# EAGLE library part EP3C25-Q240-IO131 (library Altera-EP3C25-Q240-IO131-CTRL_S)
EPF10K30 FLEX 10K family
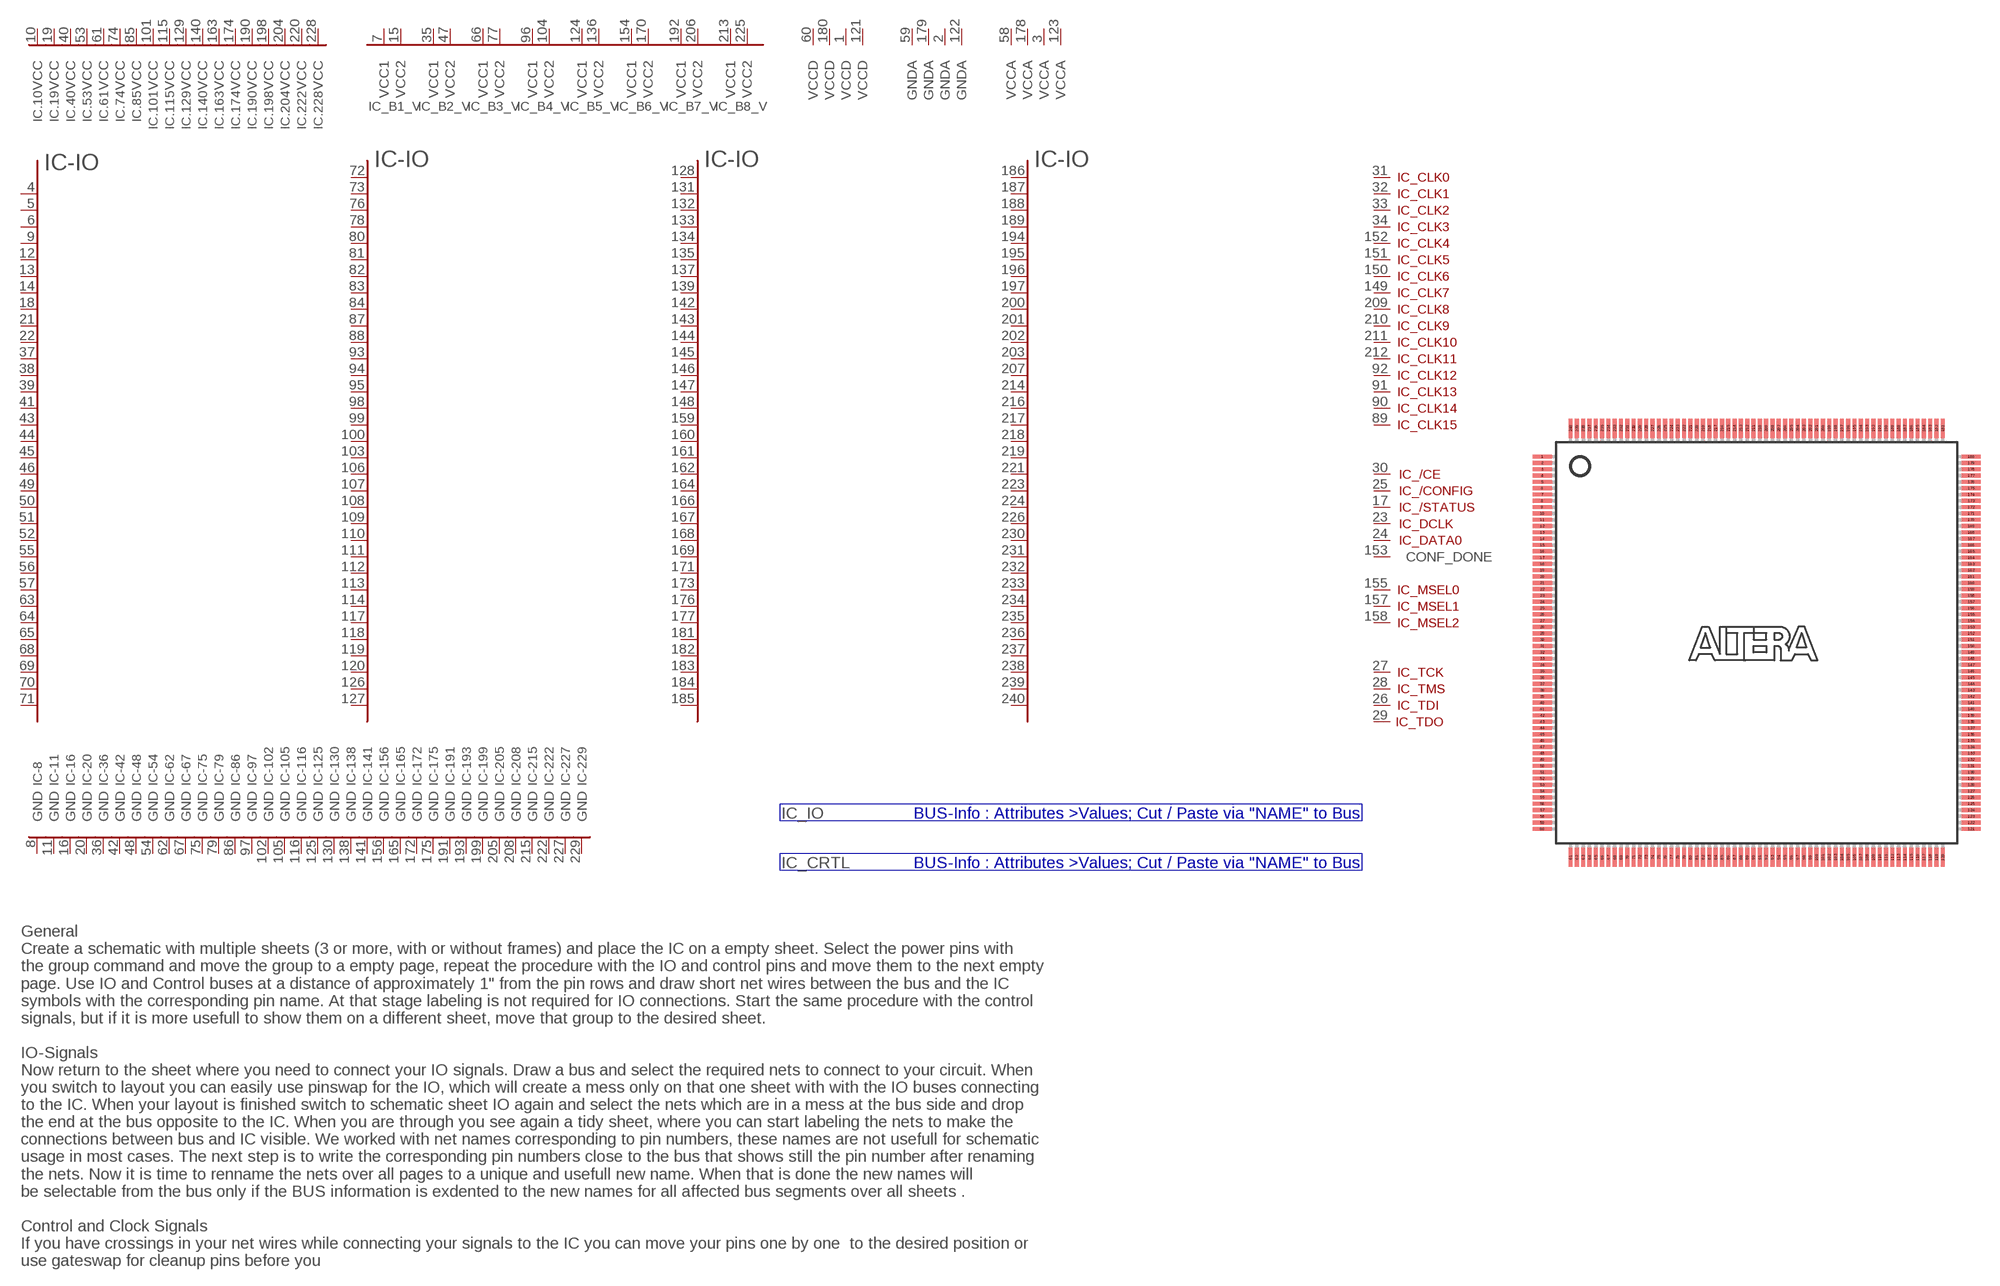
[diagram p0: symbol with the pads of PQFP240; footprint PQFP240]

Designator prefix IC; gates .10=VCCINT .19=VCCINT .40=VCCINT .53=VCCINT .61=VCCINT .74=VCCINT .85=VCCINT .101=VCCINT .115=VCCINT .129=VCCINT .140=VCCINT .163=VCCINT .174=VCCINT .190=VCCINT .198=VCCINT .204=VCCINT .222=VCCINT .228=VCCINT -8=GNDINT -11=GNDINT -16=GNDINT -20=GNDINT -36=GNDINT -42=GNDINT -48=GNDINT -54=GNDINT -62=GNDINT -67=GNDINT -75=GNDINT -79=GNDINT -86=GNDINT -97=GNDINT -102=GNDINT -105=GNDINT -116=GNDINT -125=GNDINT -130=GNDINT -138=GNDINT -141=GNDINT -156=GNDINT -165=GNDINT -175=GNDINT -191=GNDINT -193=GNDINT -199=GNDINT -205=GNDINT -208=GNDINT -215=GNDINT -222=GNDINT -227=GNDINT -229=GNDINT -172=GNDINT _B1_V=VCC_IO _B2_V=VCC_IO _B3_V=VCC_IO _B4_V=VCC_IO _B5_V=VCC_IO _B6_V=VCC_IO _B7_V=VCC_IO _B8_V=VCC_IO -IO=IO_1-131 _IO=INFO-BUS _CRTL=INFO-BUS G$2=USAGE G$31=CONF_DONE PLL1=VCCD PLL2=VCCD PLL3=VCCD PLL4=VCCD GNDA1=GNDA GNDA2=GNDA GNDA3=GNDA GNDA4=GNDA VCCA1=VCCA VCCA2=VCCA VCCA3=VCCA VCCA4=VCCA _CLK0=CLK _CLK1=CLK _CLK2=CLK _CLK3=CLK _CLK4=CLK _CLK5=CLK _CLK6=CLK _CLK7=CLK _CLK8=CLK _CLK9=CLK _CLK10=CLK _CLK11=CLK _CLK12=CLK _CLK13=CLK _CLK14=CLK _CLK15=CLK _MSEL0=MSEL _MSEL1=MSEL _MSEL2=MSEL _/CE=CTRL _/CONFIG=CTRL _/STATUS=CTRL _TCK=JTAG-IN _TMS=JTAG-IN _TDI=JTAG-IN _TDO=JTAG-OUT _DCLK=CTRL _DATA0=CTRL

## EP3C25-Q240-IO131 (BUS-CTRL: -CTRL:CLK[0..15],CONF_DONE,/STATUS,/CONFIG,MSEL[0..2],/CE,DCLK,DATA0,TCK,TDO,TMS,TDI; BUS-IO: -IO:PIN#,4,5,6,9,12,13,14,18,21,22,37,38,39,41,42,43,44,45,46,49,50,51,52,55,56,57,63,64,65,68,69,70,71,72,73,76,78,80,81,82,83,84,87,88,93,94,95,98,99,100,103,106,107,108,109,110,111,112,113,114,117,118,119,120,126,127,128,131,132,133,134,135,137,139,142,148,159,160,161,162,164,166,167,168,169,171,173,176,177,181,182,183,184,185,186,187,188,189,194,195,196,197,200,201,202,203,207,214,216,217,218,219,221,223,224,226,230,231,232,233,234,235,236,237,238,239,240)  [PQFP240]
1  PLL3:VCCD  pwr
2  GNDA3:GNDA  pwr
3  VCCA3:VCCA  pwr
4  -IO:IO_1
5  -IO:IO_2
6  -IO:IO_3
7  _B1_V:VCC1  pwr
8  -8:GND  pwr
9  -IO:IO_4
10  .10:VCC  pwr
11  -11:GND  pwr
12  -IO:IO_5
13  -IO:IO_6
14  -IO:IO_7
15  _B1_V:VCC2  pwr
16  -16:GND  pwr
17  _/STATUS:P$1  in
18  -IO:IO_8
19  .19:VCC  pwr
20  -20:GND  pwr
21  -IO:IO_9
22  -IO:IO_10
23  _DCLK:P$1  in
24  _DATA0:P$1  in
25  _/CONFIG:P$1  in
26  _TDI:P$1  in
27  _TCK:P$1  in
28  _TMS:P$1  in
29  _TDO:P$1  out
30  _/CE:P$1  in
31  _CLK0:CLK  out
32  _CLK1:CLK  out
33  _CLK2:CLK  out
34  _CLK3:CLK  out
35  _B2_V:VCC1  pwr
36  -36:GND  pwr
37  -IO:IO_11
38  -IO:IO_12
39  -IO:IO_13
40  .40:VCC  pwr
41  -IO:IO_14
42  -42:GND  pwr
43  -IO:IO_15
44  -IO:IO_16
45  -IO:IO_17
46  -IO:IO_18
47  _B2_V:VCC2  pwr
48  -48:GND  pwr
49  -IO:IO_19
50  -IO:IO_20
51  -IO:IO_21
52  -IO:IO_22
53  .53:VCC  pwr
54  -54:GND  pwr
55  -IO:IO_23
56  -IO:IO_24
57  -IO:IO_25
58  VCCA1:VCCA  pwr
59  GNDA1:GNDA  pwr
60  PLL1:VCCD  pwr
61  .61:VCC  pwr
62  -62:GND  pwr
63  -IO:IO_26
64  -IO:IO_27
65  -IO:IO_28
66  _B3_V:VCC1  pwr
67  -67:GND  pwr
68  -IO:IO_29
69  -IO:IO_30
70  -IO:IO_31
71  -IO:IO_32
72  -IO:IO_33
73  -IO:IO_34
74  .74:VCC  pwr
75  -75:GND  pwr
76  -IO:IO_35
77  _B3_V:VCC2  pwr
78  -IO:IO_36
79  -79:GND  pwr
80  -IO:IO_37
81  -IO:IO_38
82  -IO:IO_39
83  -IO:IO_40
84  -IO:IO_41
85  .85:VCC  pwr
86  -86:GND  pwr
87  -IO:IO_42
88  -IO:IO_43
89  _CLK15:CLK  out
90  _CLK14:CLK  out
91  _CLK13:CLK  out
92  _CLK12:CLK  out
93  -IO:IO_44
94  -IO:IO_45
95  -IO:IO_46
96  _B4_V:VCC1  pwr
97  -97:GND  pwr
98  -IO:IO_47
99  -IO:IO_48
100  -IO:IO_49
101  .101:VCC  pwr
102  -102:GND  pwr
103  -IO:IO_50
104  _B4_V:VCC2  pwr
105  -105:GND  pwr
106  -IO:IO_51
107  -IO:IO_52
108  -IO:IO_53
109  -IO:IO_54
110  -IO:IO_55
111  -IO:IO_56
112  -IO:IO_57
113  -IO:IO_58
114  -IO:IO_59
115  .115:VCC  pwr
116  -116:GND  pwr
117  -IO:IO_60
118  -IO:IO_61
119  -IO:IO_62
120  -IO:IO_63
121  PLL4:VCCD  pwr
122  GNDA4:GNDA  pwr
123  VCCA4:VCCA  pwr
124  _B5_V:VCC1  pwr
125  -125:GND  pwr
126  -IO:IO_64
127  -IO:IO_65
128  -IO:IO_66
129  .129:VCC  pwr
130  -130:GND  pwr
131  -IO:IO_67
132  -IO:IO_68
133  -IO:IO_69
134  -IO:IO_70
135  -IO:IO_71
136  _B5_V:VCC2  pwr
137  -IO:IO_72
138  -138:GND  pwr
139  -IO:IO_73
140  .140:VCC  pwr
141  -141:GND  pwr
142  -IO:IO_74
143  -IO:IO_75
144  -IO:IO_76
145  -IO:IO_77
146  -IO:IO_78
147  -IO:IO_79
148  -IO:IO_80
149  _CLK7:CLK  out
150  _CLK6:CLK  out
151  _CLK5:CLK  out
152  _CLK4:CLK  out
153  G$31:CONF_DONE  out
154  _B6_V:VCC1  pwr
155  _MSEL0:MSEL  in
156  -156:GND  pwr
157  _MSEL1:MSEL  in
158  _MSEL2:MSEL  in
159  -IO:IO_81
160  -IO:IO_82
161  -IO:IO_83
162  -IO:IO_84
163  .163:VCC  pwr
164  -IO:IO_85
165  -165:GND  pwr
166  -IO:IO_86
167  -IO:IO_87
168  -IO:IO_88
169  -IO:IO_89
170  _B6_V:VCC2  pwr
171  -IO:IO_90
172  -172:GND  pwr
173  -IO:IO_91
174  .174:VCC  pwr
175  -175:GND  pwr
176  -IO:IO_92
177  -IO:IO_93
178  VCCA2:VCCA  pwr
179  GNDA2:GNDA  pwr
180  PLL2:VCCD  pwr
181  -IO:IO_94
182  -IO:IO_95
183  -IO:IO_96
184  -IO:IO_97
185  -IO:IO_98
186  -IO:IO_99
187  -IO:IO_100
188  -IO:IO_101
189  -IO:IO_102
190  .190:VCC  pwr
191  -191:GND  pwr
192  _B7_V:VCC1  pwr
193  -193:GND  pwr
194  -IO:IO_103
195  -IO:IO_104
196  -IO:IO_105
197  -IO:IO_106
198  .198:VCC  pwr
199  -199:GND  pwr
200  -IO:IO_107
201  -IO:IO_108
202  -IO:IO_109
203  -IO:IO_110
204  .204:VCC  pwr
205  -205:GND  pwr
206  _B7_V:VCC2  pwr
207  -IO:IO_111
208  -208:GND  pwr
209  _CLK8:CLK  out
210  _CLK9:CLK  out
211  _CLK10:CLK  out
212  _CLK11:CLK  out
213  _B8_V:VCC1  pwr
214  -IO:IO_112
215  -215:GND  pwr
216  -IO:IO_113
217  -IO:IO_114
218  -IO:IO_115
219  -IO:IO_116
220  .222:VCC  pwr
221  -IO:IO_117
222  -222:GND  pwr
223  -IO:IO_118
224  -IO:IO_119
225  _B8_V:VCC2  pwr
226  -IO:IO_120
227  -227:GND  pwr
228  .228:VCC  pwr
229  -229:GND  pwr
230  -IO:IO_121
231  -IO:IO_122
232  -IO:IO_123
233  -IO:IO_124
234  -IO:IO_125
235  -IO:IO_126
236  -IO:IO_127
237  -IO:IO_128
238  -IO:IO_129
239  -IO:IO_130
240  -IO:IO_131

## Footprint PQFP240 (pad centres in mm)
Plastic Quad Flat Pack
smd 1.5 x 0.32: 1 -17,14.75; 2 -17,14.25; 3 -17,13.75; 4 -17,13.25; 5 -17,12.75; 6 -17,12.25; 7 -17,11.75; 8 -17,11.25; 9 -17,10.75; 10 -17,10.25; 11 -17,9.75; 12 -17,9.25; 13 -17,8.75; 14 -17,8.25; 15 -17,7.75; 16 -17,7.25; 17 -17,6.75; 18 -17,6.25; 19 -17,5.75; 20 -17,5.25; 21 -17,4.75; 22 -17,4.25; 23 -17,3.75; 24 -17,3.25; 25 -17,2.75; 26 -17,2.25; 27 -17,1.75; 28 -17,1.25; 29 -17,0.75; 30 -17,0.25; 31 -17,-0.25; 32 -17,-0.75; 33 -17,-1.25; 34 -17,-1.75; 35 -17,-2.25; 36 -17,-2.75; 37 -17,-3.25; 38 -17,-3.75; 39 -17,-4.25; 40 -17,-4.75; 41 -17,-5.25; 42 -17,-5.75; 43 -17,-6.25; 44 -17,-6.75; 45 -17,-7.25; 46 -17,-7.75; 47 -17,-8.25; 48 -17,-8.75; 49 -17,-9.25; 50 -17,-9.75; 51 -17,-10.25; 52 -17,-10.75; 53 -17,-11.25; 54 -17,-11.75; 55 -17,-12.25; 56 -17,-12.75; 57 -17,-13.25; 58 -17,-13.75; 59 -17,-14.25; 60 -17,-14.75; 121 17,-14.75; 122 17,-14.25; 123 17,-13.75; 124 17,-13.25; 125 17,-12.75; 126 17,-12.25; 127 17,-11.75; 128 17,-11.25; 129 17,-10.75; 130 17,-10.25; 131 17,-9.75; 132 17,-9.25; 133 17,-8.75; 134 17,-8.25; 135 17,-7.75; 136 17,-7.25; 137 17,-6.75; 138 17,-6.25; 139 17,-5.75; 140 17,-5.25; 141 17,-4.75; 142 17,-4.25; 143 17,-3.75; 144 17,-3.25; 145 17,-2.75; 146 17,-2.25; 147 17,-1.75; 148 17,-1.25; 149 17,-0.75; 150 17,-0.25; 151 17,0.25; 152 17,0.75; 153 17,1.25; 154 17,1.75; 155 17,2.25; 156 17,2.75; 157 17,3.25; 158 17,3.75; 159 17,4.25; 160 17,4.75; 161 17,5.25; 162 17,5.75; 163 17,6.25; 164 17,6.75; 165 17,7.25; 166 17,7.75; 167 17,8.25; 168 17,8.75; 169 17,9.25; 170 17,9.75; 171 17,10.25; 172 17,10.75; 173 17,11.25; 174 17,11.75; 175 17,12.25; 176 17,12.75; 177 17,13.25; 178 17,13.75; 179 17,14.25; 180 17,14.75
smd 0.32 x 1.5: 61 -14.75,-17; 62 -14.25,-17; 63 -13.75,-17; 64 -13.25,-17; 65 -12.75,-17; 66 -12.25,-17; 67 -11.75,-17; 68 -11.25,-17; 69 -10.75,-17; 70 -10.25,-17; 71 -9.75,-17; 72 -9.25,-17; 73 -8.75,-17; 74 -8.25,-17; 75 -7.75,-17; 76 -7.25,-17; 77 -6.75,-17; 78 -6.25,-17; 79 -5.75,-17; 80 -5.25,-17; 81 -4.75,-17; 82 -4.25,-17; 83 -3.75,-17; 84 -3.25,-17; 85 -2.75,-17; 86 -2.25,-17; 87 -1.75,-17; 88 -1.25,-17; 89 -0.75,-17; 90 -0.25,-17; 91 0.25,-17; 92 0.75,-17; 93 1.25,-17; 94 1.75,-17; 95 2.25,-17; 96 2.75,-17; 97 3.25,-17; 98 3.75,-17; 99 4.25,-17; 100 4.75,-17; 101 5.25,-17; 102 5.75,-17; 103 6.25,-17; 104 6.75,-17; 105 7.25,-17; 106 7.75,-17; 107 8.25,-17; 108 8.75,-17; 109 9.25,-17; 110 9.75,-17; 111 10.25,-17; 112 10.75,-17; 113 11.25,-17; 114 11.75,-17; 115 12.25,-17; 116 12.75,-17; 117 13.25,-17; 118 13.75,-17; 119 14.25,-17; 120 14.75,-17; 181 14.75,17; 182 14.25,17; 183 13.75,17; 184 13.25,17; 185 12.75,17; 186 12.25,17; 187 11.75,17; 188 11.25,17; 189 10.75,17; 190 10.25,17; 191 9.75,17; 192 9.25,17; 193 8.75,17; 194 8.25,17; 195 7.75,17; 196 7.25,17; 197 6.75,17; 198 6.25,17; 199 5.75,17; 200 5.25,17; 201 4.75,17; 202 4.25,17; 203 3.75,17; 204 3.25,17; 205 2.75,17; 206 2.25,17; 207 1.75,17; 208 1.25,17; 209 0.75,17; 210 0.25,17; 211 -0.25,17; 212 -0.75,17; 213 -1.25,17; 214 -1.75,17; 215 -2.25,17; 216 -2.75,17; 217 -3.25,17; 218 -3.75,17; 219 -4.25,17; 220 -4.75,17; 221 -5.25,17; 222 -5.75,17; 223 -6.25,17; 224 -6.75,17; 225 -7.25,17; 226 -7.75,17; 227 -8.25,17; 228 -8.75,17; 229 -9.25,17; 230 -9.75,17; 231 -10.25,17; 232 -10.75,17; 233 -11.25,17; 234 -11.75,17; 235 -12.25,17; 236 -12.75,17; 237 -13.25,17; 238 -13.75,17; 239 -14.25,17; 240 -14.75,17